# EAGLE library part MA10-2 (library we-con)
Pin Header
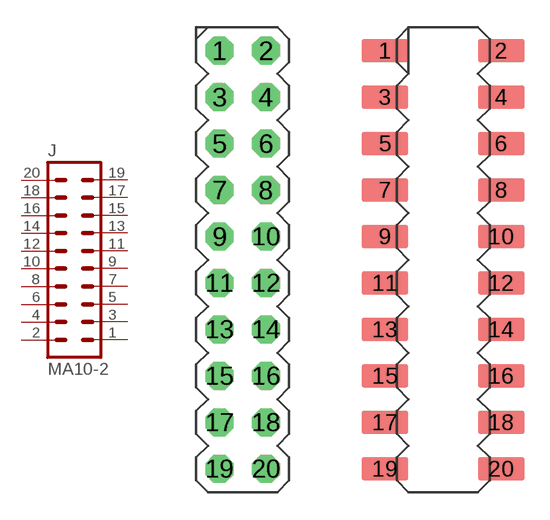
[diagram p13: symbol with the pads of MA10-2; footprints MA10-2, MA10-2_SMD]

Designator prefix J

## MA10-2  [MA10-2]
1  1  pas
2  2  pas
3  3  pas
4  4  pas
5  5  pas
6  6  pas
7  7  pas
8  8  pas
9  9  pas
10  10  pas
11  11  pas
12  12  pas
13  13  pas
14  14  pas
15  15  pas
16  16  pas
17  17  pas
18  18  pas
19  19  pas
20  20  pas

## MA10-2S  [MA10-2_SMD]
Pads as for MA10-2

## Footprint MA10-2 (pad centres in mm)
drill 1 octagon: 1 -1.27,11.43; 2 1.27,11.43; 3 -1.27,8.89; 4 1.27,8.89; 5 -1.27,6.35; 6 1.27,6.35; 7 -1.27,3.81; 8 1.27,3.81; 9 -1.27,1.27; 10 1.27,1.27; 11 -1.27,-1.27; 12 1.27,-1.27; 13 -1.27,-3.81; 14 1.27,-3.81; 15 -1.27,-6.35; 16 1.27,-6.35; 17 -1.27,-8.89; 18 1.27,-8.89; 19 -1.27,-11.43; 20 1.27,-11.43

## Footprint MA10-2_SMD (pad centres in mm)
smd 2.54 x 1.27: 1 -3.175,11.43; 2 3.175,11.43; 3 -3.175,8.89; 4 3.175,8.89; 5 -3.175,6.35; 6 3.175,6.35; 7 -3.175,3.81; 8 3.175,3.81; 9 -3.175,1.27; 10 3.175,1.27; 11 -3.175,-1.27; 12 3.175,-1.27; 13 -3.175,-3.81; 14 3.175,-3.81; 15 -3.175,-6.35; 16 3.175,-6.35; 17 -3.175,-8.89; 18 3.175,-8.89; 19 -3.175,-11.43; 20 3.175,-11.43